# EAGLE library part DF12-20P (library co-hirose)
DF12 20-pin
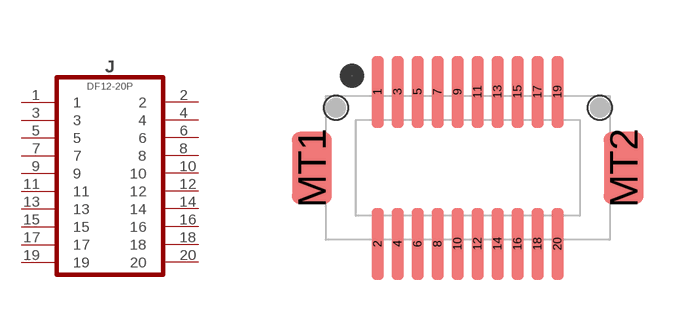
[diagram p0: symbol with the pads of DF12-20P-RCPT-MTL-BOSS; footprint DF12-20P-RCPT-MTL-BOSS]

Designator prefix J

## DF12-20P-RCPT (VALUE: DF12-20DS-0.5V)  [DF12-20P-RCPT-MTL-BOSS]
1  1
2  2
3  3
4  4
5  5
6  6
7  7
8  8
9  9
10  10
11  11
12  12
13  13
14  14
15  15
16  16
17  17
18  18
19  19
20  20

## Footprint DF12-20P-RCPT-MTL-BOSS (pad centres in mm)
Hirose DF12 20P Recepticle with Metal Fitting and Boss
smd 0.3 x 1.8: 1 -2.25,1.9; 2 -2.25,-1.9; 3 -1.75,1.9; 4 -1.75,-1.9; 5 -1.25,1.9; 6 -1.25,-1.9; 7 -0.75,1.9; 8 -0.75,-1.9; 9 -0.25,1.9; 10 -0.25,-1.9; 11 0.25,1.9; 12 0.25,-1.9; 13 0.75,1.9; 14 0.75,-1.9; 15 1.25,1.9; 16 1.25,-1.9; 17 1.75,1.9; 18 1.75,-1.9; 19 2.25,1.9; 20 2.25,-1.9
smd 1 x 1.8: MT1 -3.9,0; MT2 3.9,0
hole 0.6 at -3.3,1.5
hole 0.6 at 3.3,1.5